# Altium footprint library VT.PcbLib: 5 footprints
Each footprint in its own frame and in the unit in brackets; x right, y up, seen from the top. Pads: shape width x height; smd on the part's side, far side on the other; paste and mask are expansions set on the pad; w line width, h text height; cw(c..) or ccw(c..) is an arc to the next point about the centre after c.
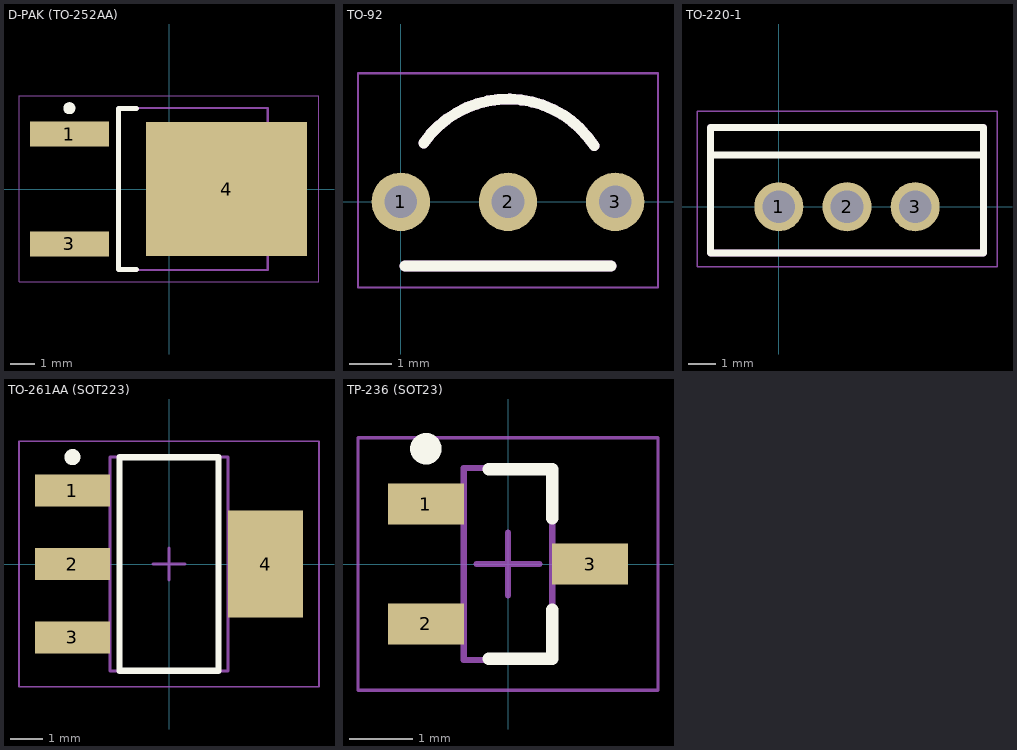
[diagram p0: the footprints below, top view; thin cyan lines are the x and y axes]

## D-PAK (TO-252AA) [mm]
height 2.39
pads (3):
  rect 3.3x1.05 smd: 1(-4.15,2.29) 3(-4.15,-2.29)
  rect 6.7x5.6 smd: 4(2.4,0)
Top Overlay:
  circle w0.25: c-4.15,3.365 r0.125
  lines w0.2: -1.35,-3.35 -2.1,-3.35 -2.1,3.35 -1.35,3.35
Border:
  lines w0.05: -6.25,-3.875 -6.25,3.875 6.25,3.875 6.25,-3.875 -6.25,-3.875
  lines w0.1: -0.5,0 0.5,0 ; 0,-0.5 0,0.5
3D:
  lines w0.1: -2.1,-3.375 4.12,-3.375 4.12,3.375 -2.1,3.375 -2.1,-3.375
3D body: height 2.39, standoff 0, extent -2.1,-3.375 4.12,3.375

## TO-92 [mm]
pads (3):
  round 1.36 hole 0.76: 1(0,0) 2(2.5,0) 3(5,0)
Top Overlay:
  lines w0.254: 0.1,-1.5 2.5,-1.5 4.9,-1.5 ; 0.534,1.376 cw(c2.5,0) 4.512,1.308
Border:
  lines w0.05: -1,-2 6,-2 6,3 -1,3 -1,-2
3D:
  lines w0.254: 0.1,-1.5 2.5,-1.5 4.9,-1.5 ; 0.534,1.376 cw(c2.5,0) 4.512,1.308
3D body: height 9, standoff 4, extent 0,-1.5 5,2.4

## TO-220-1 [mm]
pads (3):
  round 1.8 hole 1.2: 1(0,0) 2(2.5,0) 3(5,0)
Top Overlay:
  lines w0.254: -2.5,1.9 7.5,1.9 ; -2.5,-1.7 7.5,-1.7 7.5,2.9 -2.5,2.9 -2.5,-1.7
Border:
  lines w0.05: -3,-2.2 8,-2.2 8,3.5 -3,3.5 -3,-2.2
3D:
  lines w0.254: -2.5,-1.7 -2.5,2.9 7.5,2.9 7.5,-1.7 -2.5,-1.7
3D body: height 12.5, standoff 3.5, extent -2.5,-1.7 7.5,2.9
3D body: height 19, standoff 3.5, extent -2.5,1.9 7.5,2.9

## TO-261AA (SOT223) [mm] "SOT223, 4-Leads, Body 6,50x7,00mm (avg), Pitch 2,30mm, IPC Low Density"
height 1.8
pads (4):
  rect 2.35x1 smd: 1(-3.025,2.3) 2(-3.025,0) 3(-3.025,-2.3)
  rect 2.35x3.35 smd: 4(3.025,0)
Top Overlay:
  circle w0.25: c-3.025,3.35 r0.125
  lines w0.2: -1.55,-3.35 -1.55,3.35 1.55,3.35 1.55,-3.35 -1.55,-3.35
Border:
  lines w0.05: -4.7,-3.85 4.7,-3.85 4.7,3.85 -4.7,3.85 -4.7,-3.85
  lines w0.1: -0.5,0 0.5,0 ; 0,-0.5 0,0.5
3D:
  lines w0.1: -1.85,-3.35 -1.85,3.35 1.85,3.35 1.85,-3.35 -1.85,-3.35
3D body: height 1.8, standoff 0.02, extent -1.85,-3.35 1.85,3.35

## TP-236 (SOT23) [mm] "SOT23, 3-Leads, Body 2,92x2,37mm, Pitch 0,95mm, IPC Low Density"
height 1.11
pads (3):
  rect 1.2x0.65 smd: 1(-1.3,0.95) 2(-1.3,-0.95) 3(1.3,0)
Top Overlay:
  circle w0.25: c-1.3,1.825 r0.125
  lines w0.2: -0.3,-1.5 0.7,-1.5 0.7,-0.725 ; -0.3,1.5 0.7,1.5 0.7,0.725
Border:
  lines w0.05: -2.375,-2 2.375,-2 2.375,2 -2.375,2 -2.375,-2
  lines w0.1: -0.5,0 0.5,0 ; 0,-0.5 0,0.5
3D:
  lines w0.1: -0.7,-1.52 -0.7,1.52 0.7,1.52 0.7,-1.52 -0.7,-1.52
3D body: height 1.11, standoff 0.01, extent -0.7,-1.52 0.7,1.52